# Altium schematic symbol library SCH - POWER - LINEAR VREG - TI LM2936Q-3P3NDP.SchLib: 1 symbol
Pins are listed as number, name and electrical type; pins without a type are passive.

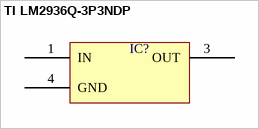
[diagram p0: symbol TI LM2936Q-3P3NDP]

## TI LM2936Q-3P3NDP
designator IC?  (value not drawn)
pins: 1 IN, 3 OUT, 4 GND